# Altium integrated library conector coaxial UMCC.IntLib: 1 symbol
Pins are listed as number, name and electrical type; pins without a type are passive.

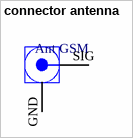
[diagram p0: symbol connector antenna]

## connector antenna
designator Ant GSM  (value not drawn)
Conector de RF / Coaxial, UMCC Coaxial, 50 ohm
footprint Ant Coaxial UMCC
pins: GND B, SIG B